# Altium footprint library Connector_FFC-FPC.PcbLib: 184 footprints (part 8 of 12)
Each footprint in its own frame and in the unit in brackets; x right, y up, seen from the top. Pads: shape width x height; smd on the part's side, far side on the other; paste and mask are expansions set on the pad; w line width, h text height; cw(c..) or ccw(c..) is an arc to the next point about the centre after c.
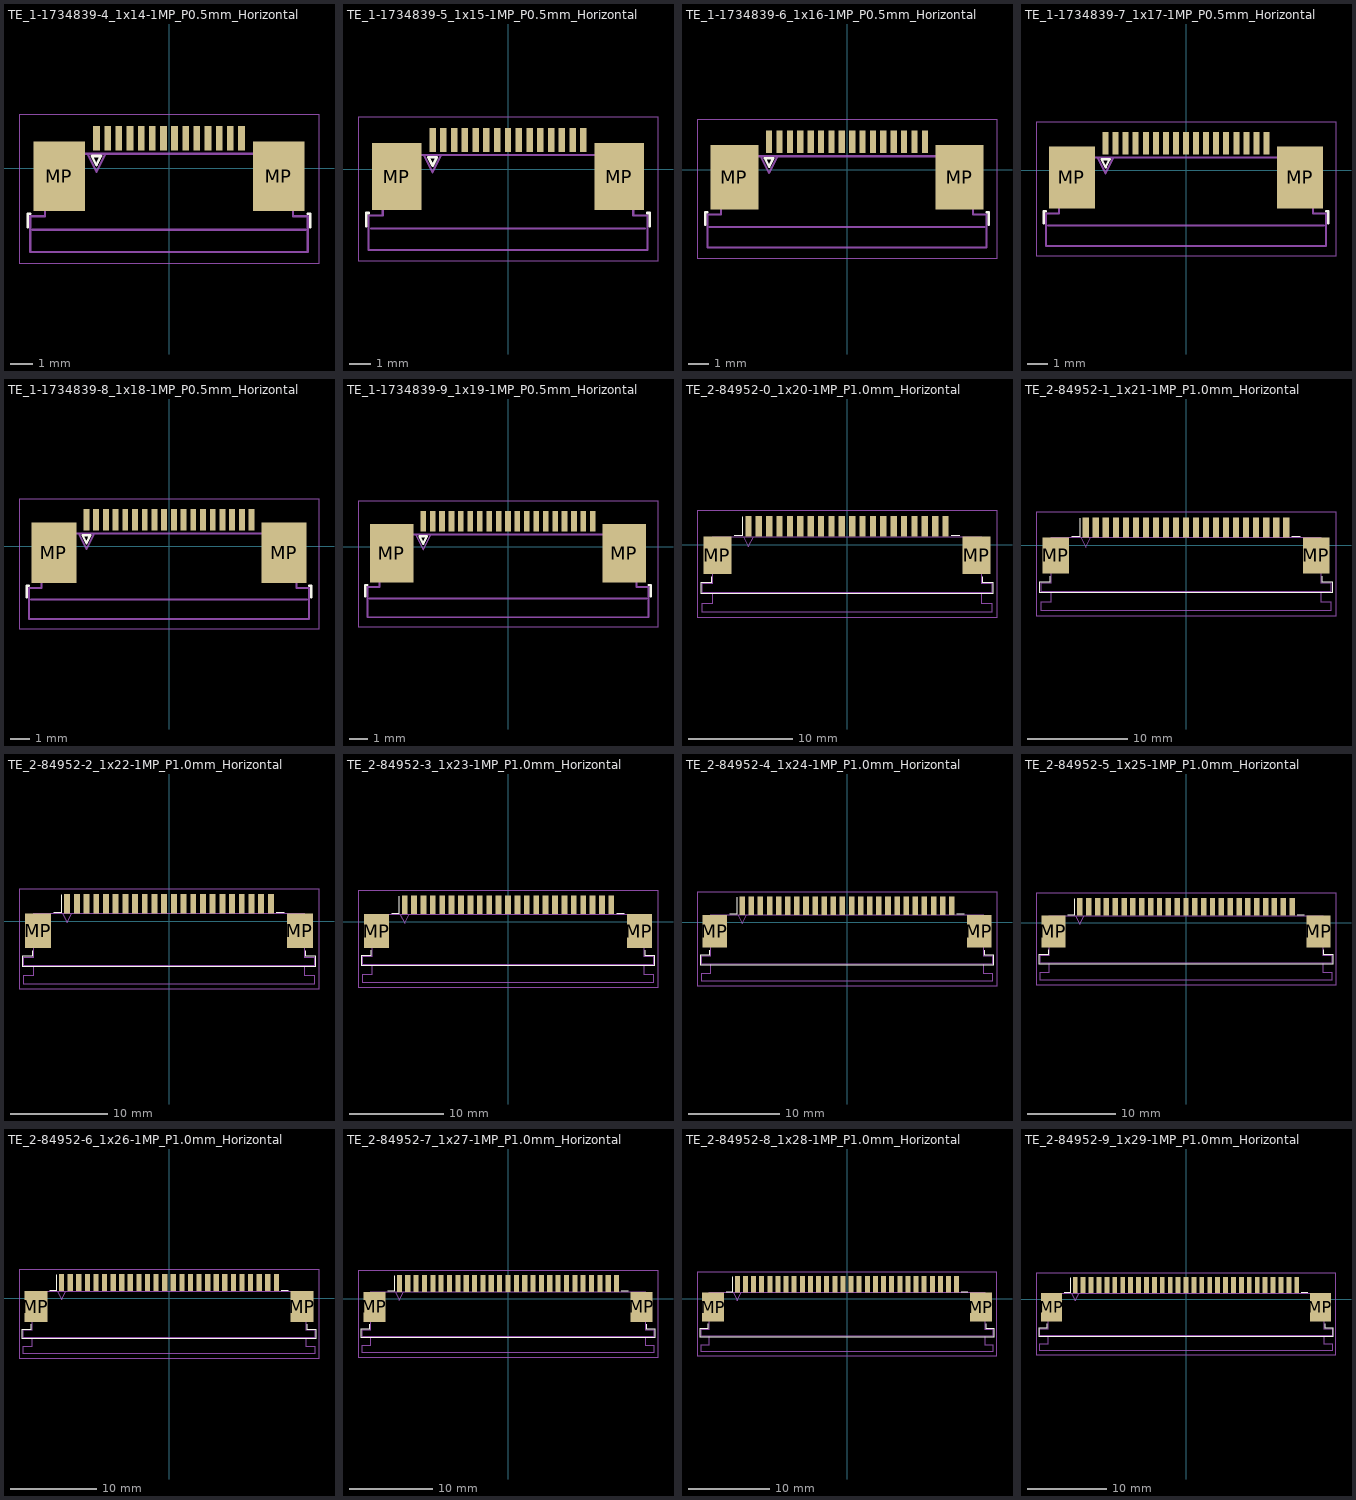
[diagram p7: the footprints below, top view; thin cyan lines are the x and y axes]

## TE_1-1734839-4_1x14-1MP_P0.5mm_Horizontal [mm]
pads (16):
  rect 0.3x1.1 smd: 1(-3.25,1.35) 2(-2.75,1.35) 3(-2.25,1.35) 4(-1.75,1.35) 5(-1.25,1.35) 6(-0.75,1.35) 7(-0.25,1.35) 8(0.25,1.35) 9(0.75,1.35) 10(1.25,1.35) 11(1.75,1.35) 12(2.25,1.35) 13(2.75,1.35) 14(3.25,1.35)
  rect 2.3x3.1 smd: MP(-4.92,-0.35) MP(4.92,-0.35)
F.SilkS:
  lines w0.12: -6.325,-2.64 -6.325,-2.04 -6.215,-2.04 ; 6.215,-2.04 6.325,-2.04 6.325,-2.64 ; -3.45,0.55 -3.25,0.15 -3.05,0.55 -3.45,0.55
Dwgs.User:
  lines w0.1: -6.105,-2.75 6.105,-2.75
F.CrtYd:
  lines w0.05: -6.72,-4.25 -6.72,2.4 6.72,2.4 6.72,-4.25 -6.72,-4.25
F.Fab:
  lines w0.1: -3.65,0.65 -3.25,-0.15 -2.85,0.65 ; -6.215,-3.75 -6.215,-2.15 -5.56,-2.15 -5.56,0.65 5.56,0.65 5.56,-2.15 6.215,-2.15 6.215,-3.75 -6.215,-3.75
  text "'.Designator'" at -4.047,-2.39 h1

## TE_1-1734839-5_1x15-1MP_P0.5mm_Horizontal [mm]
pads (17):
  rect 0.3x1.1 smd: 1(-3.5,1.35) 2(-3,1.35) 3(-2.5,1.35) 4(-2,1.35) 5(-1.5,1.35) 6(-1,1.35) 7(-0.5,1.35) 8(0,1.35) 9(0.5,1.35) 10(1,1.35) 11(1.5,1.35) 12(2,1.35) 13(2.5,1.35) 14(3,1.35) 15(3.5,1.35)
  rect 2.3x3.1 smd: MP(-5.17,-0.35) MP(5.17,-0.35)
F.SilkS:
  lines w0.12: -6.575,-2.64 -6.575,-2.04 -6.465,-2.04 ; 6.465,-2.04 6.575,-2.04 6.575,-2.64 ; -3.7,0.55 -3.5,0.15 -3.3,0.55 -3.7,0.55
Dwgs.User:
  lines w0.1: -6.355,-2.75 6.355,-2.75
F.CrtYd:
  lines w0.05: -6.96,-4.25 6.96,-4.25 6.96,2.4 -6.96,2.4 -6.96,-4.25
F.Fab:
  lines w0.1: -3.9,0.65 -3.5,-0.15 -3.1,0.65 ; -6.465,-3.75 -6.465,-2.15 -5.81,-2.15 -5.81,0.65 5.81,0.65 5.81,-2.15 6.465,-2.15 6.465,-3.75 -6.465,-3.75
  text "'.Designator'" at -4.047,-2.39 h1

## TE_1-1734839-6_1x16-1MP_P0.5mm_Horizontal [mm]
pads (18):
  rect 0.3x1.1 smd: 1(-3.75,1.35) 2(-3.25,1.35) 3(-2.75,1.35) 4(-2.25,1.35) 5(-1.75,1.35) 6(-1.25,1.35) 7(-0.75,1.35) 8(-0.25,1.35) 9(0.25,1.35) 10(0.75,1.35) 11(1.25,1.35) 12(1.75,1.35) 13(2.25,1.35) 14(2.75,1.35) 15(3.25,1.35) 16(3.75,1.35)
  rect 2.3x3.1 smd: MP(-5.42,-0.35) MP(5.42,-0.35)
F.SilkS:
  lines w0.12: -6.825,-2.64 -6.825,-2.04 -6.715,-2.04 ; 6.715,-2.04 6.825,-2.04 6.825,-2.64 ; -3.95,0.55 -3.55,0.55 -3.75,0.15 -3.95,0.55
Dwgs.User:
  lines w0.1: -6.605,-2.75 6.605,-2.75
F.CrtYd:
  lines w0.05: -7.22,-4.25 -7.22,2.4 7.22,2.4 7.22,-4.25 -7.22,-4.25
F.Fab:
  lines w0.1: -4.15,0.65 -3.75,-0.15 -3.35,0.65 ; -6.715,-3.75 -6.715,-2.15 -6.06,-2.15 -6.06,0.65 6.06,0.65 6.06,-2.15 6.715,-2.15 6.715,-3.75 -6.715,-3.75
  text "'.Designator'" at -4.047,-2.39 h1

## TE_1-1734839-7_1x17-1MP_P0.5mm_Horizontal [mm]
pads (19):
  rect 0.3x1.1 smd: 1(-4,1.35) 2(-3.5,1.35) 3(-3,1.35) 4(-2.5,1.35) 5(-2,1.35) 6(-1.5,1.35) 7(-1,1.35) 8(-0.5,1.35) 9(0,1.35) 10(0.5,1.35) 11(1,1.35) 12(1.5,1.35) 13(2,1.35) 14(2.5,1.35) 15(3,1.35) 16(3.5,1.35) 17(4,1.35)
  rect 2.3x3.1 smd: MP(-5.67,-0.35) MP(5.67,-0.35)
F.SilkS:
  lines w0.12: -7.075,-2.64 -7.075,-2.04 -6.965,-2.04 ; 6.965,-2.04 7.075,-2.04 7.075,-2.64 ; -4.2,0.55 -3.8,0.55 -4,0.15 -4.2,0.55
Dwgs.User:
  lines w0.1: -6.855,-2.75 6.855,-2.75
F.CrtYd:
  lines w0.05: -7.46,-4.25 7.46,-4.25 7.46,2.4 -7.46,2.4 -7.46,-4.25
F.Fab:
  lines w0.1: -4.4,0.65 -4,-0.15 -3.6,0.65 ; -6.965,-3.75 -6.965,-2.15 -6.31,-2.15 -6.31,0.65 6.31,0.65 6.31,-2.15 6.965,-2.15 6.965,-3.75 -6.965,-3.75
  text "'.Designator'" at -4.047,-2.39 h1

## TE_1-1734839-8_1x18-1MP_P0.5mm_Horizontal [mm]
pads (20):
  rect 0.3x1.1 smd: 1(-4.25,1.35) 2(-3.75,1.35) 3(-3.25,1.35) 4(-2.75,1.35) 5(-2.25,1.35) 6(-1.75,1.35) 7(-1.25,1.35) 8(-0.75,1.35) 9(-0.25,1.35) 10(0.25,1.35) 11(0.75,1.35) 12(1.25,1.35) 13(1.75,1.35) 14(2.25,1.35) 15(2.75,1.35) 16(3.25,1.35) 17(3.75,1.35) 18(4.25,1.35)
  rect 2.3x3.1 smd: MP(-5.92,-0.35) MP(5.92,-0.35)
F.SilkS:
  lines w0.12: -7.325,-2.64 -7.325,-2.04 -7.215,-2.04 ; 7.215,-2.04 7.325,-2.04 7.325,-2.64 ; -4.45,0.55 -4.25,0.15 -4.05,0.55 -4.45,0.55
Dwgs.User:
  lines w0.1: -7.105,-2.75 7.105,-2.75
F.CrtYd:
  lines w0.05: -7.72,-4.25 -7.72,2.4 7.72,2.4 7.72,-4.25 -7.72,-4.25
F.Fab:
  lines w0.1: -4.65,0.65 -4.25,-0.15 -3.85,0.65 ; -7.215,-3.75 -7.215,-2.15 -6.56,-2.15 -6.56,0.65 6.56,0.65 6.56,-2.15 7.215,-2.15 7.215,-3.75 -7.215,-3.75
  text "'.Designator'" at -4.047,-2.39 h1

## TE_1-1734839-9_1x19-1MP_P0.5mm_Horizontal [mm]
pads (21):
  rect 0.3x1.1 smd: 1(-4.5,1.35) 2(-4,1.35) 3(-3.5,1.35) 4(-3,1.35) 5(-2.5,1.35) 6(-2,1.35) 7(-1.5,1.35) 8(-1,1.35) 9(-0.5,1.35) 10(0,1.35) 11(0.5,1.35) 12(1,1.35) 13(1.5,1.35) 14(2,1.35) 15(2.5,1.35) 16(3,1.35) 17(3.5,1.35) 18(4,1.35) 19(4.5,1.35)
  rect 2.3x3.1 smd: MP(-6.17,-0.35) MP(6.17,-0.35)
F.SilkS:
  lines w0.12: -7.575,-2.64 -7.575,-2.04 -7.465,-2.04 ; 7.465,-2.04 7.575,-2.04 7.575,-2.64 ; -4.7,0.55 -4.3,0.55 -4.5,0.15 -4.7,0.55
Dwgs.User:
  lines w0.1: -7.355,-2.75 7.355,-2.75
F.CrtYd:
  lines w0.05: -7.96,-4.25 7.96,-4.25 7.96,2.4 -7.96,2.4 -7.96,-4.25
F.Fab:
  lines w0.1: -4.9,0.65 -4.5,-0.15 -4.1,0.65 ; -7.465,-3.75 -7.465,-2.15 -6.81,-2.15 -6.81,0.65 6.81,0.65 6.81,-2.15 7.465,-2.15 7.465,-3.75 -7.465,-3.75
  text "'.Designator'" at -4.047,-2.39 h1

## TE_2-84952-0_1x20-1MP_P1.0mm_Horizontal [mm]
pads (22):
  rect 0.61x2 smd: 1(-9.5,1.8) 2(-8.5,1.8) 3(-7.5,1.8) 4(-6.5,1.8) 5(-5.5,1.8) 6(-4.5,1.8) 7(-3.5,1.8) 8(-2.5,1.8) 9(-1.5,1.8) 10(-0.5,1.8) 11(0.5,1.8) 12(1.5,1.8) 13(2.5,1.8) 14(3.5,1.8) 15(4.5,1.8) 16(5.5,1.8) 17(6.5,1.8) 18(7.5,1.8) 19(8.5,1.8) 20(9.5,1.8)
  rect 2.68x3.6 smd: MP(-12.49,-1) MP(12.49,-1)
F.SilkS:
  lines w0.12: -13.045,-3.06 -13.045,-3.6 -14.07,-3.6 -14.07,-4.71 14.07,-4.71 14.07,-3.6 13.045,-3.6 13.045,-3.06 ; -10.89,0.91 -10.065,0.91 -10.065,2.71 ; 10.065,0.91 10.89,0.91
F.CrtYd:
  lines w0.05: -14.46,-7 -14.46,3.3 14.46,3.3 14.46,-7 -14.46,-7
F.Fab:
  lines w0.1: -12.935,-4.6 -12.935,-5.61 -13.96,-5.61 -13.96,-6.5 13.96,-6.5 13.96,-5.61 12.935,-5.61 12.935,-4.6 ; -10,0.8 -9.5,-0.2 -9,0.8 ; -13.96,-4.6 13.96,-4.6 13.96,-3.71 12.935,-3.71 12.935,0.8 -12.935,0.8 -12.935,-3.71 -13.96,-3.71 -13.96,-4.6
  text "'.Designator'" at -4.047,-2.74 h1

## TE_2-84952-1_1x21-1MP_P1.0mm_Horizontal [mm]
pads (23):
  rect 0.61x2 smd: 1(-10,1.8) 2(-9,1.8) 3(-8,1.8) 4(-7,1.8) 5(-6,1.8) 6(-5,1.8) 7(-4,1.8) 8(-3,1.8) 9(-2,1.8) 10(-1,1.8) 11(0,1.8) 12(1,1.8) 13(2,1.8) 14(3,1.8) 15(4,1.8) 16(5,1.8) 17(6,1.8) 18(7,1.8) 19(8,1.8) 20(9,1.8) 21(10,1.8)
  rect 2.68x3.6 smd: MP(-12.99,-1) MP(12.99,-1)
F.SilkS:
  lines w0.12: -13.545,-3.06 -13.545,-3.6 -14.57,-3.6 -14.57,-4.71 14.57,-4.71 14.57,-3.6 13.545,-3.6 13.545,-3.06 ; -11.39,0.91 -10.565,0.91 -10.565,2.71 ; 10.565,0.91 11.39,0.91
F.CrtYd:
  lines w0.05: -14.96,-7 14.96,-7 14.96,3.3 -14.96,3.3 -14.96,-7
F.Fab:
  lines w0.1: -13.435,-4.6 -13.435,-5.61 -14.46,-5.61 -14.46,-6.5 14.46,-6.5 14.46,-5.61 13.435,-5.61 13.435,-4.6 ; -10.5,0.8 -10,-0.2 -9.5,0.8 ; -14.46,-4.6 -14.46,-3.71 -13.435,-3.71 -13.435,0.8 13.435,0.8 13.435,-3.71 14.46,-3.71 14.46,-4.6 -14.46,-4.6
  text "'.Designator'" at -4.047,-2.74 h1

## TE_2-84952-2_1x22-1MP_P1.0mm_Horizontal [mm]
pads (24):
  rect 0.61x2 smd: 1(-10.5,1.8) 2(-9.5,1.8) 3(-8.5,1.8) 4(-7.5,1.8) 5(-6.5,1.8) 6(-5.5,1.8) 7(-4.5,1.8) 8(-3.5,1.8) 9(-2.5,1.8) 10(-1.5,1.8) 11(-0.5,1.8) 12(0.5,1.8) 13(1.5,1.8) 14(2.5,1.8) 15(3.5,1.8) 16(4.5,1.8) 17(5.5,1.8) 18(6.5,1.8) 19(7.5,1.8) 20(8.5,1.8) 21(9.5,1.8) 22(10.5,1.8)
  rect 2.68x3.6 smd: MP(-13.49,-1) MP(13.49,-1)
F.SilkS:
  lines w0.12: -14.045,-3.06 -14.045,-3.6 -15.07,-3.6 -15.07,-4.71 15.07,-4.71 15.07,-3.6 14.045,-3.6 14.045,-3.06 ; -11.89,0.91 -11.065,0.91 -11.065,2.71 ; 11.065,0.91 11.89,0.91
F.CrtYd:
  lines w0.05: -15.46,-7 -15.46,3.3 15.46,3.3 15.46,-7 -15.46,-7
F.Fab:
  lines w0.1: -13.935,-4.6 -13.935,-5.61 -14.96,-5.61 -14.96,-6.5 14.96,-6.5 14.96,-5.61 13.935,-5.61 13.935,-4.6 ; -11,0.8 -10.5,-0.2 -10,0.8 ; -14.96,-4.6 -14.96,-3.71 -13.935,-3.71 -13.935,0.8 13.935,0.8 13.935,-3.71 14.96,-3.71 14.96,-4.6 -14.96,-4.6
  text "'.Designator'" at -4.047,-2.74 h1

## TE_2-84952-3_1x23-1MP_P1.0mm_Horizontal [mm]
pads (25):
  rect 0.61x2 smd: 1(-11,1.8) 2(-10,1.8) 3(-9,1.8) 4(-8,1.8) 5(-7,1.8) 6(-6,1.8) 7(-5,1.8) 8(-4,1.8) 9(-3,1.8) 10(-2,1.8) 11(-1,1.8) 12(0,1.8) 13(1,1.8) 14(2,1.8) 15(3,1.8) 16(4,1.8) 17(5,1.8) 18(6,1.8) 19(7,1.8) 20(8,1.8) 21(9,1.8) 22(10,1.8) 23(11,1.8)
  rect 2.68x3.6 smd: MP(-13.99,-1) MP(13.99,-1)
F.SilkS:
  lines w0.12: -14.545,-3.06 -14.545,-3.6 -15.57,-3.6 -15.57,-4.71 15.57,-4.71 15.57,-3.6 14.545,-3.6 14.545,-3.06 ; -12.39,0.91 -11.565,0.91 -11.565,2.71 ; 11.565,0.91 12.39,0.91
F.CrtYd:
  lines w0.05: -15.96,-7 15.96,-7 15.96,3.3 -15.96,3.3 -15.96,-7
F.Fab:
  lines w0.1: -14.435,-4.6 -14.435,-5.61 -15.46,-5.61 -15.46,-6.5 15.46,-6.5 15.46,-5.61 14.435,-5.61 14.435,-4.6 ; -11.5,0.8 -11,-0.2 -10.5,0.8 ; -15.46,-4.6 -15.46,-3.71 -14.435,-3.71 -14.435,0.8 14.435,0.8 14.435,-3.71 15.46,-3.71 15.46,-4.6 -15.46,-4.6
  text "'.Designator'" at -4.047,-2.74 h1

## TE_2-84952-4_1x24-1MP_P1.0mm_Horizontal [mm]
pads (26):
  rect 0.61x2 smd: 1(-11.5,1.8) 2(-10.5,1.8) 3(-9.5,1.8) 4(-8.5,1.8) 5(-7.5,1.8) 6(-6.5,1.8) 7(-5.5,1.8) 8(-4.5,1.8) 9(-3.5,1.8) 10(-2.5,1.8) 11(-1.5,1.8) 12(-0.5,1.8) 13(0.5,1.8) 14(1.5,1.8) 15(2.5,1.8) 16(3.5,1.8) 17(4.5,1.8) 18(5.5,1.8) 19(6.5,1.8) 20(7.5,1.8) 21(8.5,1.8) 22(9.5,1.8) 23(10.5,1.8) 24(11.5,1.8)
  rect 2.68x3.6 smd: MP(-14.49,-1) MP(14.49,-1)
F.SilkS:
  lines w0.12: -15.045,-3.06 -15.045,-3.6 -16.07,-3.6 -16.07,-4.71 16.07,-4.71 16.07,-3.6 15.045,-3.6 15.045,-3.06 ; -12.89,0.91 -12.065,0.91 -12.065,2.71 ; 12.065,0.91 12.89,0.91
F.CrtYd:
  lines w0.05: -16.46,-7 -16.46,3.3 16.46,3.3 16.46,-7 -16.46,-7
F.Fab:
  lines w0.1: -14.935,-4.6 -14.935,-5.61 -15.96,-5.61 -15.96,-6.5 15.96,-6.5 15.96,-5.61 14.935,-5.61 14.935,-4.6 ; -12,0.8 -11.5,-0.2 -11,0.8 ; -15.96,-4.6 -15.96,-3.71 -14.935,-3.71 -14.935,0.8 14.935,0.8 14.935,-3.71 15.96,-3.71 15.96,-4.6 -15.96,-4.6
  text "'.Designator'" at -4.047,-2.74 h1

## TE_2-84952-5_1x25-1MP_P1.0mm_Horizontal [mm]
pads (27):
  rect 0.61x2 smd: 1(-12,1.8) 2(-11,1.8) 3(-10,1.8) 4(-9,1.8) 5(-8,1.8) 6(-7,1.8) 7(-6,1.8) 8(-5,1.8) 9(-4,1.8) 10(-3,1.8) 11(-2,1.8) 12(-1,1.8) 13(0,1.8) 14(1,1.8) 15(2,1.8) 16(3,1.8) 17(4,1.8) 18(5,1.8) 19(6,1.8) 20(7,1.8) 21(8,1.8) 22(9,1.8) 23(10,1.8) 24(11,1.8) 25(12,1.8)
  rect 2.68x3.6 smd: MP(-14.99,-1) MP(14.99,-1)
F.SilkS:
  lines w0.12: -15.545,-3.06 -15.545,-3.6 -16.57,-3.6 -16.57,-4.71 16.57,-4.71 16.57,-3.6 15.545,-3.6 15.545,-3.06 ; -13.39,0.91 -12.565,0.91 -12.565,2.71 ; 12.565,0.91 13.39,0.91
F.CrtYd:
  lines w0.05: -16.96,-7 -16.96,3.3 16.96,3.3 16.96,-7 -16.96,-7
F.Fab:
  lines w0.1: -15.435,-4.6 -15.435,-5.61 -16.46,-5.61 -16.46,-6.5 16.46,-6.5 16.46,-5.61 15.435,-5.61 15.435,-4.6 ; -12.5,0.8 -12,-0.2 -11.5,0.8 ; -16.46,-4.6 16.46,-4.6 16.46,-3.71 15.435,-3.71 15.435,0.8 -15.435,0.8 -15.435,-3.71 -16.46,-3.71 -16.46,-4.6
  text "'.Designator'" at -4.047,-2.74 h1

## TE_2-84952-6_1x26-1MP_P1.0mm_Horizontal [mm]
pads (28):
  rect 0.61x2 smd: 1(-12.5,1.8) 2(-11.5,1.8) 3(-10.5,1.8) 4(-9.5,1.8) 5(-8.5,1.8) 6(-7.5,1.8) 7(-6.5,1.8) 8(-5.5,1.8) 9(-4.5,1.8) 10(-3.5,1.8) 11(-2.5,1.8) 12(-1.5,1.8) 13(-0.5,1.8) 14(0.5,1.8) 15(1.5,1.8) 16(2.5,1.8) 17(3.5,1.8) 18(4.5,1.8) 19(5.5,1.8) 20(6.5,1.8) 21(7.5,1.8) 22(8.5,1.8) 23(9.5,1.8) 24(10.5,1.8) 25(11.5,1.8) 26(12.5,1.8)
  rect 2.68x3.6 smd: MP(-15.49,-1) MP(15.49,-1)
F.SilkS:
  lines w0.12: -16.045,-3.06 -16.045,-3.6 -17.07,-3.6 -17.07,-4.71 17.07,-4.71 17.07,-3.6 16.045,-3.6 16.045,-3.06 ; -13.89,0.91 -13.065,0.91 -13.065,2.71 ; 13.065,0.91 13.89,0.91
F.CrtYd:
  lines w0.05: -17.46,-7 -17.46,3.3 17.46,3.3 17.46,-7 -17.46,-7
F.Fab:
  lines w0.1: -15.935,-4.6 -15.935,-5.61 -16.96,-5.61 -16.96,-6.5 16.96,-6.5 16.96,-5.61 15.935,-5.61 15.935,-4.6 ; -13,0.8 -12.5,-0.2 -12,0.8 ; -16.96,-4.6 -16.96,-3.71 -15.935,-3.71 -15.935,0.8 15.935,0.8 15.935,-3.71 16.96,-3.71 16.96,-4.6 -16.96,-4.6
  text "'.Designator'" at -4.047,-2.74 h1

## TE_2-84952-7_1x27-1MP_P1.0mm_Horizontal [mm]
pads (29):
  rect 0.61x2 smd: 1(-13,1.8) 2(-12,1.8) 3(-11,1.8) 4(-10,1.8) 5(-9,1.8) 6(-8,1.8) 7(-7,1.8) 8(-6,1.8) 9(-5,1.8) 10(-4,1.8) 11(-3,1.8) 12(-2,1.8) 13(-1,1.8) 14(0,1.8) 15(1,1.8) 16(2,1.8) 17(3,1.8) 18(4,1.8) 19(5,1.8) 20(6,1.8) 21(7,1.8) 22(8,1.8) 23(9,1.8) 24(10,1.8) 25(11,1.8) 26(12,1.8) 27(13,1.8)
  rect 2.68x3.6 smd: MP(-15.99,-1) MP(15.99,-1)
F.SilkS:
  lines w0.12: -16.545,-3.06 -16.545,-3.6 -17.57,-3.6 -17.57,-4.71 17.57,-4.71 17.57,-3.6 16.545,-3.6 16.545,-3.06 ; -14.39,0.91 -13.565,0.91 -13.565,2.71 ; 13.565,0.91 14.39,0.91
F.CrtYd:
  lines w0.05: -17.96,-7 17.96,-7 17.96,3.3 -17.96,3.3 -17.96,-7
F.Fab:
  lines w0.1: -16.435,-4.6 -16.435,-5.61 -17.46,-5.61 -17.46,-6.5 17.46,-6.5 17.46,-5.61 16.435,-5.61 16.435,-4.6 ; -13.5,0.8 -13,-0.2 -12.5,0.8 ; -17.46,-4.6 -17.46,-3.71 -16.435,-3.71 -16.435,0.8 16.435,0.8 16.435,-3.71 17.46,-3.71 17.46,-4.6 -17.46,-4.6
  text "'.Designator'" at -4.047,-2.74 h1

## TE_2-84952-8_1x28-1MP_P1.0mm_Horizontal [mm]
pads (30):
  rect 0.61x2 smd: 1(-13.5,1.8) 2(-12.5,1.8) 3(-11.5,1.8) 4(-10.5,1.8) 5(-9.5,1.8) 6(-8.5,1.8) 7(-7.5,1.8) 8(-6.5,1.8) 9(-5.5,1.8) 10(-4.5,1.8) 11(-3.5,1.8) 12(-2.5,1.8) 13(-1.5,1.8) 14(-0.5,1.8) 15(0.5,1.8) 16(1.5,1.8) 17(2.5,1.8) 18(3.5,1.8) 19(4.5,1.8) 20(5.5,1.8) 21(6.5,1.8) 22(7.5,1.8) 23(8.5,1.8) 24(9.5,1.8) 25(10.5,1.8) 26(11.5,1.8) 27(12.5,1.8) 28(13.5,1.8)
  rect 2.68x3.6 smd: MP(-16.49,-1) MP(16.49,-1)
F.SilkS:
  lines w0.12: -17.045,-3.06 -17.045,-3.6 -18.07,-3.6 -18.07,-4.71 18.07,-4.71 18.07,-3.6 17.045,-3.6 17.045,-3.06 ; -14.89,0.91 -14.065,0.91 -14.065,2.71 ; 14.065,0.91 14.89,0.91
F.CrtYd:
  lines w0.05: -18.46,-7 18.46,-7 18.46,3.3 -18.46,3.3 -18.46,-7
F.Fab:
  lines w0.1: -16.935,-4.6 -16.935,-5.61 -17.96,-5.61 -17.96,-6.5 17.96,-6.5 17.96,-5.61 16.935,-5.61 16.935,-4.6 ; -14,0.8 -13.5,-0.2 -13,0.8 ; -17.96,-4.6 -17.96,-3.71 -16.935,-3.71 -16.935,0.8 16.935,0.8 16.935,-3.71 17.96,-3.71 17.96,-4.6 -17.96,-4.6
  text "'.Designator'" at -4.047,-2.74 h1

## TE_2-84952-9_1x29-1MP_P1.0mm_Horizontal [mm]
pads (31):
  rect 0.61x2 smd: 1(-14,1.8) 2(-13,1.8) 3(-12,1.8) 4(-11,1.8) 5(-10,1.8) 6(-9,1.8) 7(-8,1.8) 8(-7,1.8) 9(-6,1.8) 10(-5,1.8) 11(-4,1.8) 12(-3,1.8) 13(-2,1.8) 14(-1,1.8) 15(0,1.8) 16(1,1.8) 17(2,1.8) 18(3,1.8) 19(4,1.8) 20(5,1.8) 21(6,1.8) 22(7,1.8) 23(8,1.8) 24(9,1.8) 25(10,1.8) 26(11,1.8) 27(12,1.8) 28(13,1.8) 29(14,1.8)
  rect 2.68x3.6 smd: MP(-16.99,-1) MP(16.99,-1)
F.SilkS:
  lines w0.12: -17.545,-3.06 -17.545,-3.6 -18.57,-3.6 -18.57,-4.71 18.57,-4.71 18.57,-3.6 17.545,-3.6 17.545,-3.06 ; -15.39,0.91 -14.565,0.91 -14.565,2.71 ; 14.565,0.91 15.39,0.91
F.CrtYd:
  lines w0.05: -18.96,-7 18.96,-7 18.96,3.3 -18.96,3.3 -18.96,-7
F.Fab:
  lines w0.1: -17.435,-4.6 -17.435,-5.61 -18.46,-5.61 -18.46,-6.5 18.46,-6.5 18.46,-5.61 17.435,-5.61 17.435,-4.6 ; -14.5,0.8 -14,-0.2 -13.5,0.8 ; -18.46,-4.6 18.46,-4.6 18.46,-3.71 17.435,-3.71 17.435,0.8 -17.435,0.8 -17.435,-3.71 -18.46,-3.71 -18.46,-4.6
  text "'.Designator'" at -4.047,-2.74 h1